# EAGLE library part 1-1734592-0 (library 1-1734592-0)
TE Connectivity FPC 0.5mm Pitch 10 Way Right Angle SMT Female FPC Connector, ZIF Bottom Contact Source: Datasheet <https://www.te.com/commerce/DocumentDelivery/DDEController?Action=showdoc&DocId=Customer Drawing1734592CpdfEnglishENG_CD_1734592_C_C_1734592.pdf1-1734592-8>
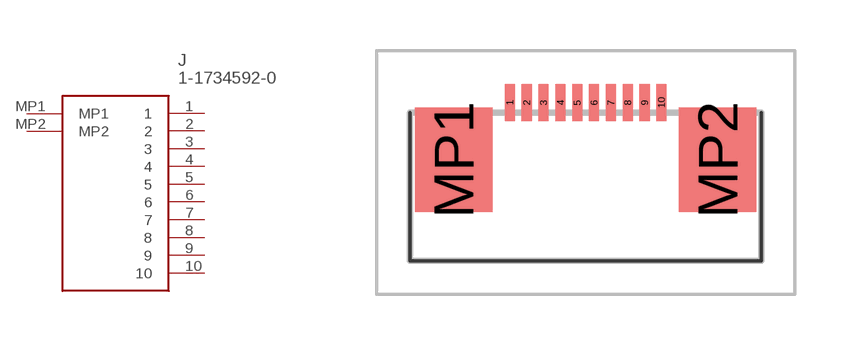
[diagram p0: symbol with the pads of 117345920; footprint 117345920]

Designator prefix J

## 1-1734592-0 (Description: TE Connectivity FPC 0.5mm Pitch 10 Way Right Angle SMT Female FPC Connector, ZIF Bottom Contact; Height: 2.3mm; Manufacturer_Name: TE Connectivity; Manufacturer_Part_Number: 1-1734592-0; Mouser_Part_Number: 571-1-1734592-0; Mouser_Price-Stock: https://www.mouser.co.uk/ProductDetail/TE-Connectivity/1-1734592-0?qs=sXy4Dx%2FMQpOH8ogf8%2FvwBg%3D%3D)  [117345920]
1  1
2  2
3  3
4  4
5  5
6  6
7  7
8  8
9  9
10  10
MP1  MP1
MP2  MP2

## Footprint 117345920 (pad centres in mm)
1-1734592-0-1
smd 0.3 x 1.1: 1 -2.25,2.35; 2 -1.75,2.35; 3 -1.25,2.35; 4 -0.75,2.35; 5 -0.25,2.35; 6 0.25,2.35; 7 0.75,2.35; 8 1.25,2.35; 9 1.75,2.35; 10 2.25,2.35
smd 2.3 x 3.1: MP1 -3.92,0.65; MP2 3.92,0.65